# Altium integrated library S3B-PH-SM4-TB.IntLib: 1 symbol
Pins are listed as number, name and electrical type; pins without a type are passive.

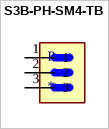
[diagram p0: symbol S3B-PH-SM4-TB]

## S3B-PH-SM4-TB
designator P
Connector Header Surface Mount, Right Angle 3 position 0.079 _2.00mm_; MF: JST Sales; MP: S3B-PH-SM4-TB; Availability: Unavailable; Price: None; Package: None; Value: *; SnapEDA_Link: https://www.snapeda.com/parts/S3B-PH-SM4-TB/JST%20Sales%20America%20Inc./view-part/473685/?ref=snap
footprint JST_S3B-PH-SM4-TB
pins: 1, 2, 3